# Altium schematic symbol library SCH - ARM CORTEX - STM STM8L001J3Mx.SchLib: 1 symbol
Pins are listed as number, name and electrical type; pins without a type are passive.

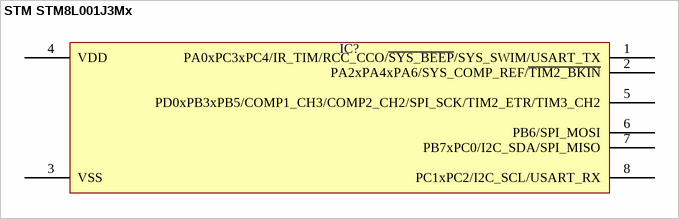
[diagram p0: symbol STM STM8L001J3Mx]

## STM STM8L001J3Mx
designator IC?  (value not drawn)
pins: 1 PA0xPC3xPC4/IR_TIM/RCC_CCO/~{SYS_BEEP}/SYS_SWIM/USART_TX, 2 PA2xPA4xPA6/SYS_COMP_REF/~{TIM2_BKIN}, 3 VSS, 4 VDD, 5 PD0xPB3xPB5/COMP1_CH3/COMP2_CH2/SPI_SCK/TIM2_ETR/TIM3_CH2, 6 PB6/SPI_MOSI, 7 PB7xPC0/I2C_SDA/SPI_MISO, 8 PC1xPC2/I2C_SCL/USART_RX